# Altium footprint library Manu3.PcbLib: 69 footprints (part 4 of 5)
Each footprint in its own frame and in the unit in brackets; x right, y up, seen from the top. Pads: shape width x height; smd on the part's side, far side on the other; paste and mask are expansions set on the pad; w line width, h text height; cw(c..) or ccw(c..) is an arc to the next point about the centre after c.
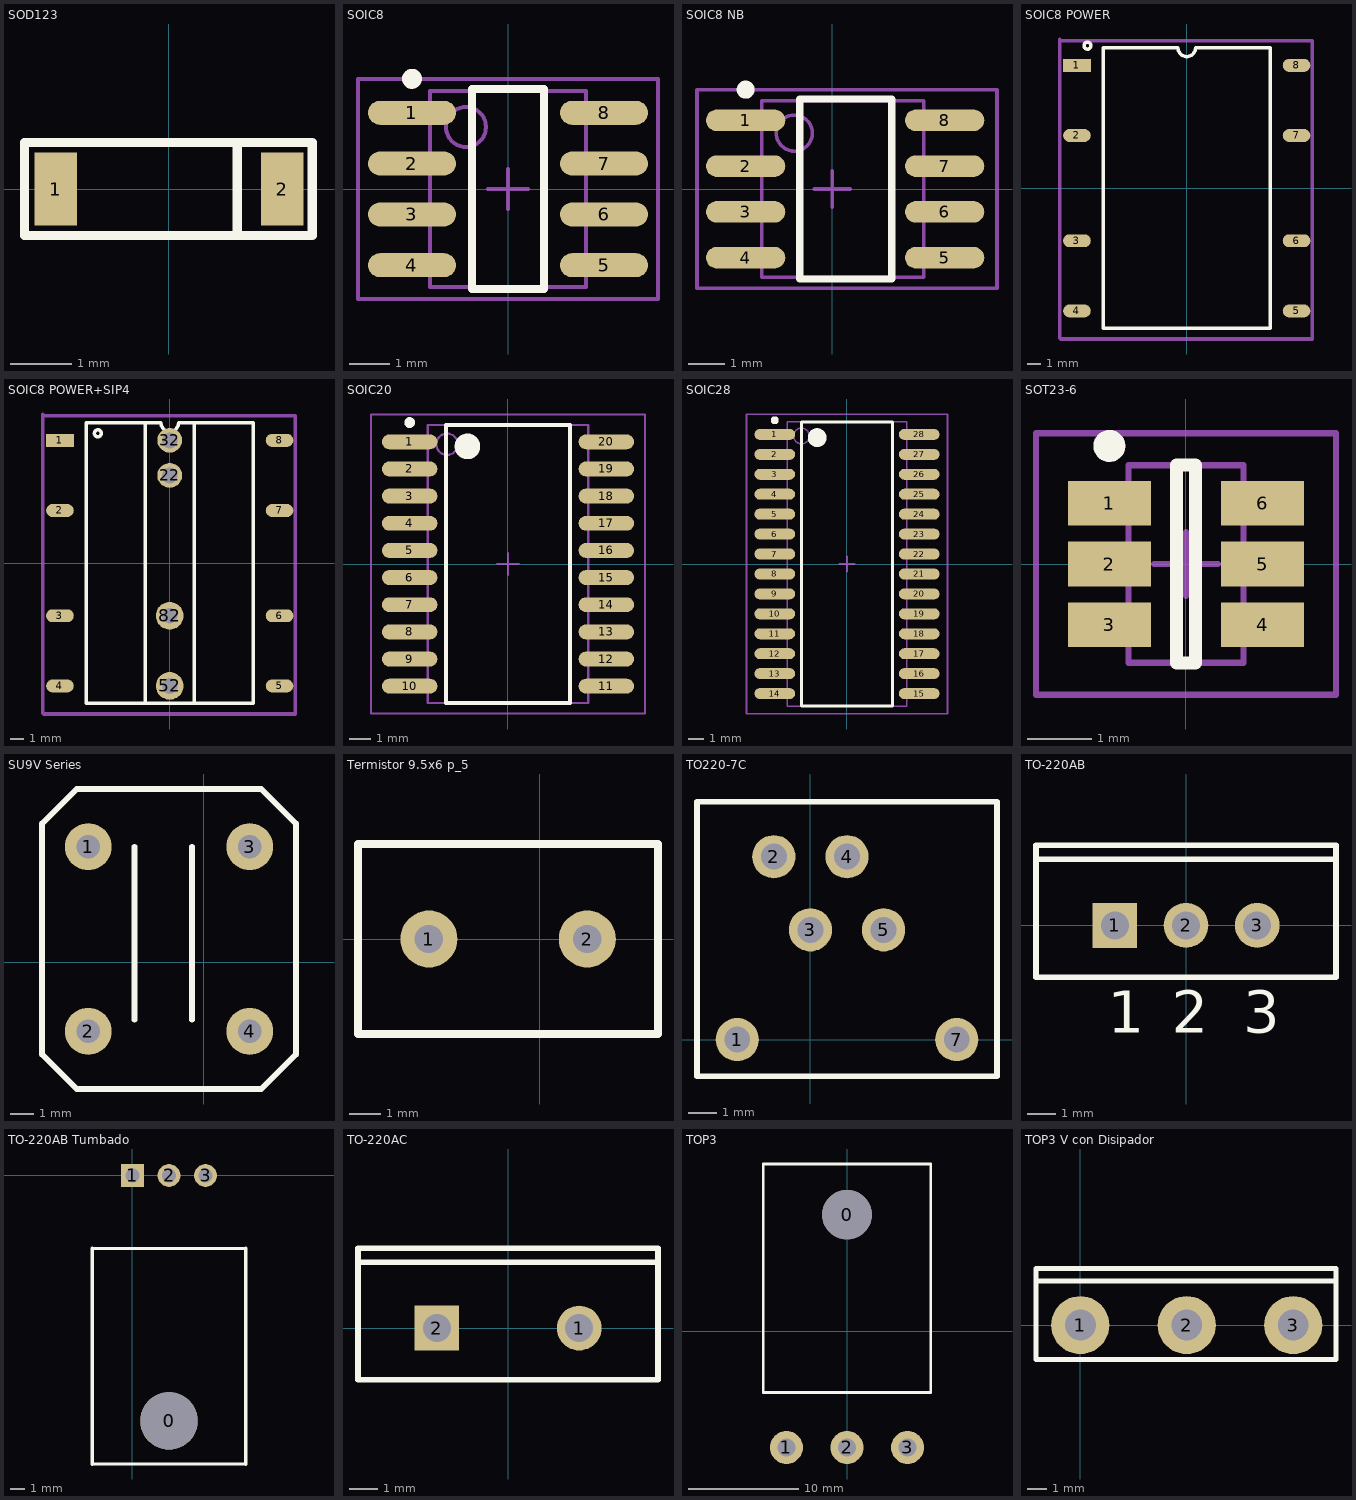
[diagram p3: the footprints below, top view; thin cyan lines are the x and y axes]

## SOD123 [mm]
height 1.35
pads (2):
  rect 0.7x1.2 smd: 1(-1.85,0) 2(1.85,0)
Top Overlay:
  lines w0.15: 1.114,-0.686 1.114,0.711 ; -2.358,-0.762 2.341,-0.762 2.341,0.762 -2.358,0.762 -2.358,-0.762

## SOIC8 [mm] "SOIC, 8-Leads, Body 4.9x3.9mm, Pitch 1.27mm, IPC Medium Density"
height 1.75
pads (8):
  oval 2.2x0.6 smd: 1(-2.4,1.905) 2(-2.4,0.635) 3(-2.4,-0.635) 4(-2.4,-1.905) 5(2.4,-1.905) 6(2.4,-0.635) 7(2.4,0.635) 8(2.4,1.905)
Top Overlay:
  circle w0.25: c-2.4,2.755 r0.125
  lines w0.2: -0.9,-2.5 0.9,-2.5 0.9,2.5 -0.9,2.5 -0.9,-2.5
Mechanical 13:
  circle w0.1: c-1.05,1.55 r0.5
  lines w0.1: -1.95,-2.45 1.95,-2.45 1.95,2.45 -1.95,2.45 -1.95,-2.45
Mechanical 15:
  lines w0.1: -0.5,0 0.5,0 ; 0,-0.5 0,0.5 ; -3.75,-2.75 3.75,-2.75 3.75,2.75 -3.75,2.75 -3.75,-2.75
3D body: height 1.75, standoff 0.03, extent -1.95,-2.45 1.95,2.45

## SOIC8 NB [mm] "SOIC, 8-Leads, Body 4.9x3.9mm, Pitch 1.27mm, IPC Medium Density"
height 0.002
pads (8):
  oval 2.2x0.6 smd: 1(-2.4,1.905) 2(-2.4,0.635) 3(-2.4,-0.635) 4(-2.4,-1.905) 5(3.12,-1.905) 6(3.12,-0.635) 7(3.12,0.635) 8(3.12,1.905)
Top Overlay:
  circle w0.25: c-2.4,2.755 r0.125
  lines w0.2: -0.9,-2.5 1.651,-2.5 1.651,2.5 -0.9,2.5 -0.9,-2.5
Mechanical 13:
  circle w0.1: c-1.05,1.55 r0.5
  lines w0.1: -1.95,-2.45 2.54,-2.45 2.54,2.45 -1.95,2.45 -1.95,-2.45
Mechanical 15:
  lines w0.1: -0.5,0 0.5,0 ; 0,-0.5 0,0.5 ; -3.75,-2.75 4.572,-2.75 4.572,2.75 -3.75,2.75 -3.75,-2.75
3D body: height 1.75, standoff 0.03, extent -1.95,-2.45 2.54,2.45

## SOIC8 POWER [mm]
height 3.3
pads (8):
  rect 2.007x0.94 smd: 1(-7.95,8.89)
  oval 2.007x0.94 smd: 2(-7.95,3.81) 3(-7.95,-3.81) 4(-7.95,-8.89) 5(7.95,-8.89) 6(7.95,-3.81) 7(7.95,3.81) 8(7.95,8.89)
Top Overlay:
  circle w0.25: c-7.186,10.312 r0.25
  lines w0.254: -6.058,-10.16 6.058,-10.16 6.058,10.16 0.635,10.16 cw(c0,10.16) -0.635,10.16 -6.058,10.16 -6.058,-10.16
Mechanical 15:
  lines w0.254: -9.175,10.79 -9.175,-10.877 -9.13,-10.922 9.068,-10.922 9.068,10.668 -9.053,10.668

## SOIC8 POWER+SIP4 [mm] "CPC1966"
height 3.3
pads (12):
  rect 2.007x0.94 smd: 1(-7.95,8.89)
  oval 2.007x0.94 smd: 2(-7.95,3.81) 3(-7.95,-3.81) 4(-7.95,-8.89) 5(7.95,-8.89) 6(7.95,-3.81) 7(7.95,3.81) 8(7.95,8.89)
  round 1.8 hole 1.15: 22(0,6.35) 32(0,8.89)
  round 2 hole 1.15: 52(0,-8.89) 82(0,-3.81)
Top Overlay:
  circle w0.25: c-5.203,9.398 r0.25
  lines w0.254: -1.778,10.16 -1.778,-10.16 1.778,-10.16 1.778,10.033 ; -6.058,-10.16 -6.058,10.16 -0.635,10.16 ccw(c0,10.16) 0.635,10.16 6.058,10.16 6.058,-10.16 -6.058,-10.16
Mechanical 15:
  lines w0.254: -9.175,10.79 -9.175,-10.877 -9.13,-10.922 9.068,-10.922 9.068,10.668 -9.053,10.668

## SOIC20 [mm] "SOIC, 20-Leads, Body 12.8x7.5mm, Pitch 1.27mm, IPC Low Density"
height 2.65
pads (20):
  oval 2.6x0.7 smd: 1(-4.6,5.715) 2(-4.6,4.445) 3(-4.6,3.175) 4(-4.6,1.905) 5(-4.6,0.635) 6(-4.6,-0.635) 7(-4.6,-1.905) 8(-4.6,-3.175) 9(-4.6,-4.445) 10(-4.6,-5.715) 11(4.6,-5.715) 12(4.6,-4.445) 13(4.6,-3.175) 14(4.6,-1.905) 15(4.6,-0.635) 16(4.6,0.635) 17(4.6,1.905) 18(4.6,3.175) 19(4.6,4.445) 20(4.6,5.715)
Top Overlay:
  circle w0.6: c-1.9,5.5 r0.3
  circle w0.25: c-4.6,6.615 r0.125
  lines w0.2: -2.9,-6.5 2.9,-6.5 2.9,6.5 -2.9,6.5 -2.9,-6.5
Mechanical 13:
  circle w0.1: c-2.85,5.6 r0.5
  lines w0.1: -3.75,-6.5 3.75,-6.5 3.75,6.5 -3.75,6.5 -3.75,-6.5
Mechanical 15:
  lines w0.1: -0.5,0 0.5,0 ; 0,-0.5 0,0.5 ; -6.4,-7 6.4,-7 6.4,7 -6.4,7 -6.4,-7
3D body: height 2.65, standoff 0, extent -3.75,-6.5 3.75,6.5

## SOIC28 [mm] "SOIC, 28-Leads, Body 17.9x7.5mm, Pitch 1.27mm, IPC Low Density"
height 2.65
pads (28):
  oval 2.6x0.7 smd: 1(-4.6,8.255) 2(-4.6,6.985) 3(-4.6,5.715) 4(-4.6,4.445) 5(-4.6,3.175) 6(-4.6,1.905) 7(-4.6,0.635) 8(-4.6,-0.635) 9(-4.6,-1.905) 10(-4.6,-3.175) 11(-4.6,-4.445) 12(-4.6,-5.715) 13(-4.6,-6.985) 14(-4.6,-8.255) 15(4.6,-8.255) 16(4.6,-6.985) 17(4.6,-5.715) 18(4.6,-4.445) 19(4.6,-3.175) 20(4.6,-1.905) 21(4.6,-0.635) 22(4.6,0.635) 23(4.6,1.905) 24(4.6,3.175) 25(4.6,4.445) 26(4.6,5.715) 27(4.6,6.985) 28(4.6,8.255)
Top Overlay:
  circle w0.25: c-4.6,9.155 r0.125
  circle w0.6: c-1.9,8.05 r0.3
  lines w0.2: -2.9,-9.05 -2.9,9.05 2.9,9.05 2.9,-9.05 -2.9,-9.05
Mechanical 13:
  circle w0.1: c-2.9,8.155 r0.5
  lines w0.1: -3.8,-9.055 -3.8,9.055 3.8,9.055 3.8,-9.055 -3.8,-9.055
Mechanical 15:
  lines w0.1: -0.5,0 0.5,0 ; 0,-0.5 0,0.5 ; -6.4,-9.55 -6.4,9.55 6.4,9.55 6.4,-9.55 -6.4,-9.55
3D body: height 2.65, standoff 0, extent -3.8,-9.055 3.8,9.055

## SOT23-6 [mm] "SOT23, 6-Leads"
height 1.45
pads (6):
  rect 1.3x0.7 smd: 1(-1.2,0.95) 2(-1.2,0) 3(-1.2,-0.95) 4(1.2,-0.95) 5(1.2,0) 6(1.2,0.95)
Top Overlay:
  circle w0.25: c-1.2,1.85 r0.125
  lines w0.2: -0.15,-1.55 0.15,-1.55 0.15,1.55 -0.15,1.55 -0.15,-1.55
Mechanical 13:
  lines w0.1: -0.9,-1.55 -0.9,1.55 0.9,1.55 0.9,-1.55 -0.9,-1.55
Mechanical 15:
  lines w0.1: -0.5,0 0.5,0 ; 0,-0.5 0,0.5 ; -2.35,-2.05 -2.35,2.05 2.35,2.05 2.35,-2.05 -2.35,-2.05
3D body: height 1.45, standoff 0, extent -0.9,-1.55 0.9,1.55

## SU9V Series [mil] "Suppression Chokes"
height 669.29
pads (4):
  round 80 hole 40: 1(-196.85,196.85) 2(-196.85,-118.11) 3(78.74,196.85) 4(78.74,-118.11)
Top Overlay:
  lines w10: -118.11,-98.42 -118.11,196.85 ; -19.68,-98.42 -19.68,196.85 ; -275.59,-157.48 -275.59,236.22 -216.53,295.27 98.42,295.27 157.48,236.22 157.48,-157.48 98.42,-216.53 -216.53,-216.53 -275.59,-157.48

## Termistor 9.5x6 p_5 [mm] "NTC Termistor"
height 14
pads (2):
  round 1.8 hole 0.9: 1(-3.5,0) 2(1.5,0)
Top Overlay:
  lines w0.254: -5.74,-2.997 -5.74,2.997 3.734,2.997 3.734,-2.997 -5.74,-2.997
3D body: height 17, standoff -20, extent -7.516,-2.6 5.484,2.6

## TO220-7C [mm] "TO, Thru-Hole, Vertical, Heatsink Mounted; 3 In-Line Leads; Pitch 2.54 mm"
height 11
pads (6):
  round 1.5 hole 0.9: 1(-2.54,0) 2(-1.27,6.35) 3(0,3.81) 4(1.27,6.35) 5(2.54,3.81) 7(5.08,0)
Top Overlay:
  lines w0.2: -3.937,-1.27 6.477,-1.27 6.477,8.255 -3.937,8.255 -3.937,-1.27
3D body: height 25, standoff 0, extent -6.786,8.255 8.514,20.514
3D body: height 19.94, standoff -1.5, extent -3.923,-0.204 6.477,7.926

## TO-220AB [mm] "TO, Thru-Hole, Vertical, Heatsink Mounted; 3 In-Line Leads; Pitch 2.54 mm"
height 19.3
pads (3):
  rect 1.6x1.6 hole 1: 1(-2.54,0)
  round 1.6 hole 1: 2(0,0) 3(2.54,0)
Top Overlay:
  lines w0.2: -5.35,2.35 5.35,2.35 ; -5.35,-1.85 -5.35,2.85 5.35,2.85 5.35,-1.85 -5.35,-1.85
  text "3" at 2.04,-3.825 h1.5
  text "1" at -2.79,-3.825 h1.5
  text "2" at -0.5,-3.825 h1.5

## TO-220AB Tumbado [mm] "TO, Thru-Hole, Vertical, Heatsink Mounted; 3 In-Line Leads; Pitch 2.54 mm"
height 19.3
pads (4):
  round 4 hole 4: 0(2.54,-17.072)
  rect 1.6x1.6 hole 1: 1(0,0)
  round 1.6 hole 1: 2(2.54,0) 3(5.08,0)
Top Overlay:
  lines w0.2: -2.81,-20.072 7.89,-20.072 ; -2.81,-5.072 7.89,-5.072
  lines w0.254: -2.81,-20.072 -2.81,-5.072 ; 7.89,-20.072 7.89,-5.072

## TO-220AC [mm] "TO, Thru-Hole, Vertical, Heatsink Mounted;2 In-Line Leads; Pitch 2.54 mm"
height 15.8
pads (2):
  round 1.6 hole 1: 1(2.54,0)
  rect 1.6x1.6 hole 1: 2(-2.54,0)
Top Overlay:
  lines w0.2: -5.35,2.35 5.35,2.35 ; -5.35,-1.85 5.35,-1.85 5.35,2.85 -5.35,2.85 -5.35,-1.85

## TOP3 [mm]
height 21
pads (4):
  round 4.5 hole 4.5: 0(0,10.575)
  round 3 hole 1.6: 1(-5.5,-10.575) 2(0,-10.575) 3(5.5,-10.575)
Top Overlay:
  lines w0.254: -7.6,-5.575 0,-5.575 7.6,-5.575 7.6,15.175 0,15.175 -7.6,15.175 -7.6,-5.575

## TOP3 V con Disipador [mm]
height 21
pads (3):
  round 3 hole 1.6: 1(0,0) 2(5.5,0) 3(11,0)
Top Overlay:
  lines w0.254: -2.286,2.286 13.208,2.286 ; -2.286,-1.778 -2.286,2.921 13.208,2.921 13.208,-1.778 -2.286,-1.778
3D body: height 22.9, standoff -13, extent -2.264,-1.346 13.236,3.154
3D body: height 25, standoff 0, extent -2.291,3.251 13.009,15.511